# EAGLE library part CON-HIROSE-DM3B-MICROSD (library arducorder-mini)
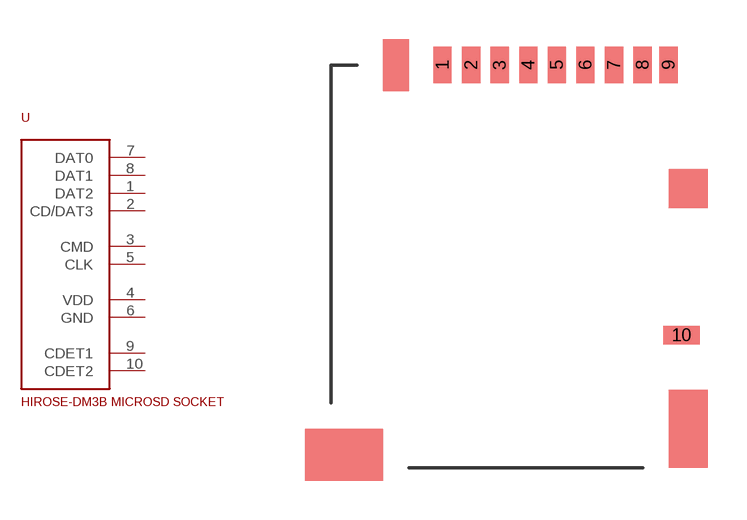
[diagram p34: symbol with the pads of CON-HIROSE-DM3B-MICROSD; footprint CON-HIROSE-DM3B-MICROSD]

Designator prefix -

## CON-HIROSE-DM3B-MICROSD  [CON-HIROSE-DM3B-MICROSD]
1  DAT2
2  CD/DAT3
3  CMD
4  VDD
5  CLK
6  GND
7  DAT0
8  DAT1
9  CDET1
10  CDET2

## Footprint CON-HIROSE-DM3B-MICROSD (pad centres in mm)
smd 0.7 x 1.4: 1 -7.7,0; 2 -6.6,0; 3 -5.5,0; 4 -4.4,0; 5 -3.3,0; 6 -2.2,0; 7 -1.1,0; 8 0,0; 9 1,0
smd 1.4 x 0.7: 10 1.5,-10.4